# EAGLE library part FPC-CONNECTOR-24PIN_FH34SRJ-24S-0.5SH(99) (library ESL)
FFC & FPC Connectors Check prices <https://pricing.snapeda.com/parts/FH34SRJ-24S-0.5SH%2899%29/Hirose%20Electric/view-part?ref=eda>
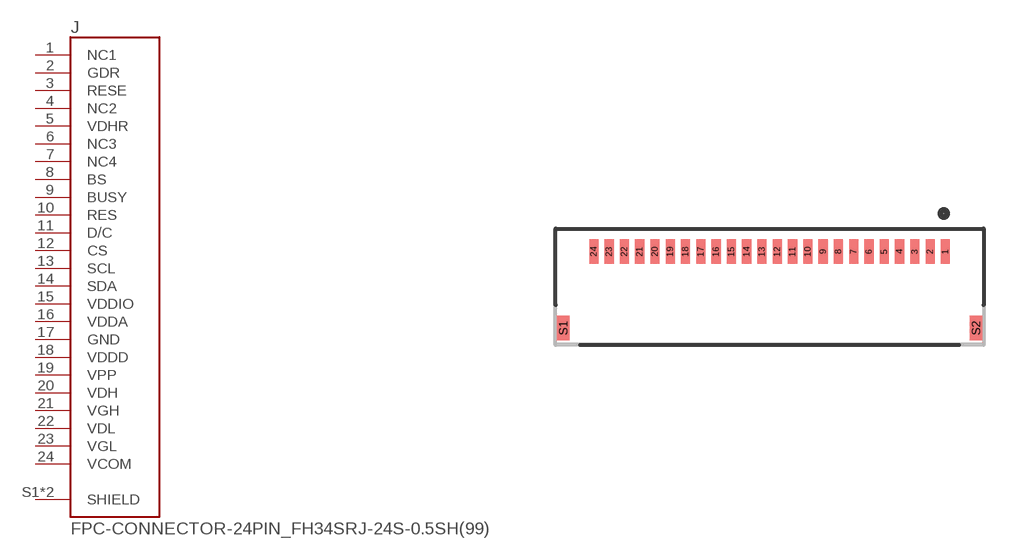
[diagram p0: symbol with the pads of FPC-CONNECTOR-24PIN_HRS_FH34SRJ-24S-0.5SH(99); footprint FPC-CONNECTOR-24PIN_HRS_FH34SRJ-24S-0.5SH(99)]

Designator prefix J

## FPC-CONNECTOR-24PIN_FH34SRJ-24S-0.5SH(99) (AVAILABILITY: In Stock; DESCRIPTION: 24 Position FFC, FPC Connector Contacts, Top and Bottom 0.020 (0.50mm) Surface Mount, Right Angle; MF: Hirose Electric; MP: FH34SRJ-24S-0.5SH(99); PACKAGE: None; PRICE: None; PURCHASE-URL: https://pricing.snapeda.com/search/part/FH34SRJ-24S-0.5SH(99)/?ref=eda)  [FPC-CONNECTOR-24PIN_HRS_FH34SRJ-24S-0.5SH(99)]
1  NC1  pas
2  GDR  pas
3  RESE  pas
4  NC2  pas
5  VDHR  pas
6  NC3  pas
7  NC4  pas
8  BS  pas
9  BUSY  pas
10  RES  pas
11  D/C  pas
12  CS  pas
13  SCL  pas
14  SDA  pas
15  VDDIO  pas
16  VDDA  pas
17  GND  pas
18  VDDD  pas
19  VPP  pas
20  VDH  pas
21  VGH  pas
22  VDL  pas
23  VGL  pas
24  VCOM  pas
S1  SHIELD  pas
S2  SHIELD  pas

## Footprint FPC-CONNECTOR-24PIN_HRS_FH34SRJ-24S-0.5SH(99) (pad centres in mm)
smd 0.3 x 0.8: 1 5.75,1.15; 2 5.25,1.15; 3 4.75,1.15; 4 4.25,1.15; 5 3.75,1.15; 6 3.25,1.15; 7 2.75,1.15; 8 2.25,1.15; 9 1.75,1.15; 10 1.25,1.15; 11 0.75,1.15; 12 0.25,1.15; 13 -0.25,1.15; 14 -0.75,1.15; 15 -1.25,1.15; 16 -1.75,1.15; 17 -2.25,1.15; 18 -2.75,1.15; 19 -3.25,1.15; 20 -3.75,1.15; 21 -4.25,1.15; 22 -4.75,1.15; 23 -5.25,1.15; 24 -5.75,1.15
smd 0.4 x 0.8: S1 -6.75,-1.35; S2 6.75,-1.35